# Altium footprint library ELEC(10.0X20.0)-TH.PcbLib: 1 footprints
Each footprint in its own frame and in the unit in brackets; x right, y up, seen from the top. Pads: shape width x height; smd on the part's side, far side on the other; paste and mask are expansions set on the pad; w line width, h text height; cw(c..) or ccw(c..) is an arc to the next point about the centre after c.
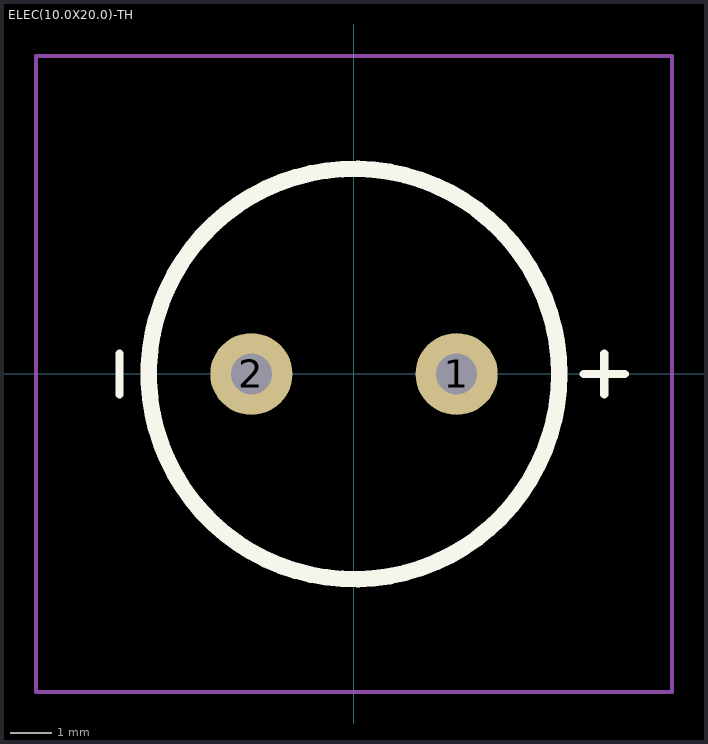
[diagram p0: the footprint, top view; thin cyan lines are the x and y axes]

## ELEC(10.0X20.0)-TH [mm]
pads (2):
  round 2 hole 1: 1(2.5,0) 2(-2.5,0)
Top Overlay:
  circle w0.4: c0,0 r5
  lines w0.2: -5.715,-0.5 -5.715,0.5 ; 5.596,0 6.596,0 ; 6.096,-0.5 6.096,0.5
Top Courtyard:
  lines w0.1: -7.75,-6.25 -7.75,-7.75 ; -6.25,-7.75 -7.75,-7.75 ; 6.25,7.75 7.75,7.75 ; 7.75,6.25 7.75,7.75 ; -7.75,-7.75 7.75,-7.75 7.75,7.75 ; -7.75,-7.75 -7.75,7.75 7.75,7.75
3D body: height 20, standoff 0, extent -6.25,-6.25 6.25,6.25